# EAGLE library part MKS1870-6-0-2020 (library con-stocko)
Serie MKS 1850 Lötstifte In-line, Raster 2.5 mm, Stiftwannen, stehend, mit Rastlasche Source: http://www.stocko.de/de/index.php?seite=ka_rfk2_mks1850.html&rubrik=Katalog+-+RFK+2 rfk_1850.pdf
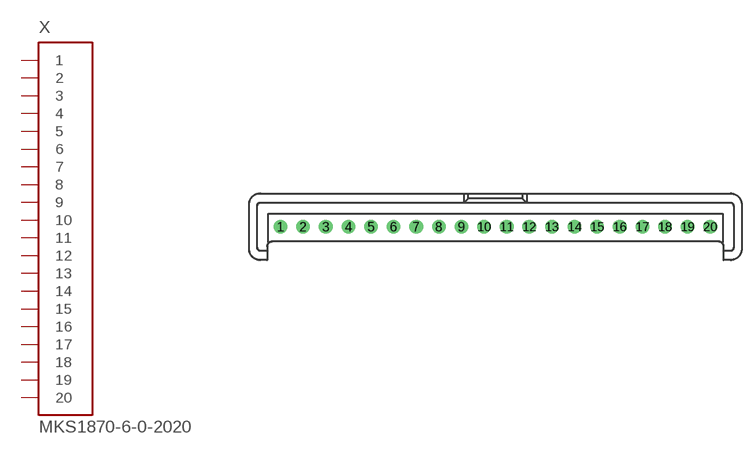
[diagram p8: symbol with the pads of MKS1870-6-0-2020; footprint MKS1870-6-0-2020]

Designator prefix X

## MKS1870-6-0-2020 (OC_FARNELL: unknown; OC_NEWARK: unknown)  [MKS1870-6-0-2020]
1  1  in
2  2  in
3  3  in
4  4  in
5  5  in
6  6  in
7  7  in
8  8  in
9  9  in
10  10  in
11  11  in
12  12  in
13  13  in
14  14  in
15  15  in
16  16  in
17  17  in
18  18  in
19  19  in
20  20  in

## Footprint MKS1870-6-0-2020 (pad centres in mm)
Serie MKS 1850 Lötstifte In-line, Raster 2.5 mm, Stiftwannen, stehend, mit Rastlasche Source: http://www.stocko.de/de/index.php?seite=ka_rfk2_mks1850.html&rubrik=Katalog+-+RFK+2 rfk_1850.pdf
drill 1 pad 1.422: 1 -23.75,0; 2 -21.25,0; 3 -18.75,0; 4 -16.25,0; 5 -13.75,0; 6 -11.25,0; 7 -8.75,0; 8 -6.25,0; 9 -3.75,0; 10 -1.25,0; 11 1.25,0; 12 3.75,0; 13 6.25,0; 14 8.75,0; 15 11.25,0; 16 13.75,0; 17 16.25,0; 18 18.75,0; 19 21.25,0; 20 23.75,0